# Altium footprint library SnapEDApcb.PcbLib: 1 footprints
Each footprint in its own frame and in the unit in brackets; x right, y up, seen from the top. Pads: shape width x height; smd on the part's side, far side on the other; paste and mask are expansions set on the pad; w line width, h text height; cw(c..) or ccw(c..) is an arc to the next point about the centre after c.
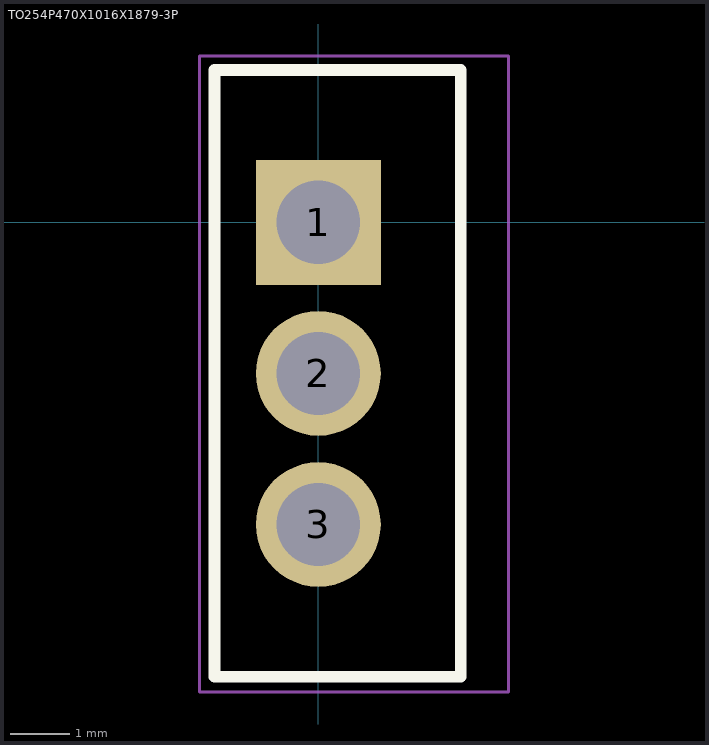
[diagram p0: the footprint, top view; thin cyan lines are the x and y axes]

## TO254P470X1016X1879-3P [mm]
pads (3):
  rect 2.1x2.1 hole 1.4: 1(0,0)
  round 2.1 hole 1.4: 2(0,-2.54) 3(0,-5.08)
Top Overlay:
  lines w0.2: -1.745,-7.64 2.395,-7.64 2.395,2.56 -1.745,2.56 -1.745,-7.64
Mechanical 15:
  lines w0.05: -2,-7.9 3.2,-7.9 3.2,2.8 -2,2.8 -2,-7.9
3D body "LM7809CT.STEP": height 20.4, standoff -9.94, extent -1.905,-7.62 2.445,2.54